# EAGLE library part DRV8353RSRGZT (library REV BLDC)
100-V Three-Phase Smart Gate Driver With Buck Regulator and Three Current Shunt Amplifiers Source: Datasheet <http://www.ti.com/lit/gpn/drv8353r>
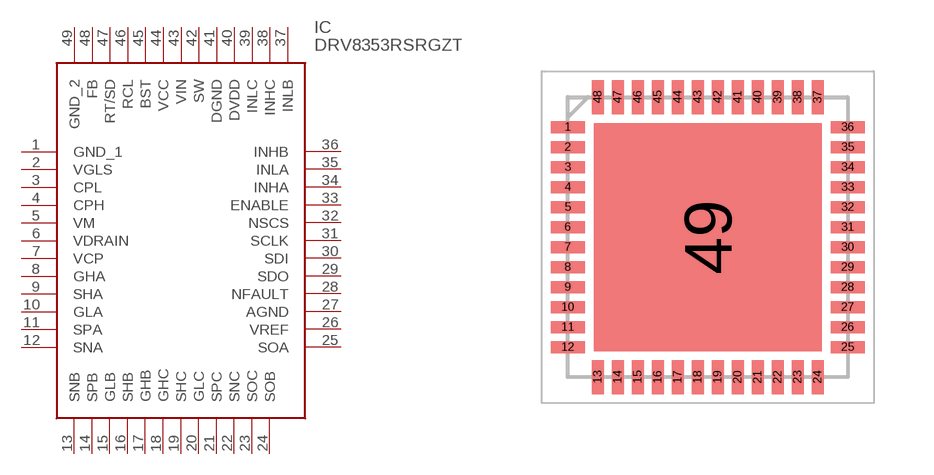
[diagram p0: symbol with the pads of QFN50P700X700X100-49N; footprint QFN50P700X700X100-49N]

Designator prefix IC

## DRV8353RSRGZT (DESCRIPTION: 100-V Three-Phase Smart Gate Driver With Buck Regulator and Three Current Shunt Amplifiers; HEIGHT: 1mm; MANUFACTURER_NAME: Texas Instruments; MANUFACTURER_PART_NUMBER: DRV8353RSRGZT; MOUSER_PART_NUMBER: 595-DRV8353RSRGZT; MOUSER_PRICE-STOCK: https://www.mouser.com/Search/Refine.aspx?Keyword=595-DRV8353RSRGZT)  [QFN50P700X700X100-49N]
1  GND_1
2  VGLS
3  CPL
4  CPH
5  VM
6  VDRAIN
7  VCP
8  GHA
9  SHA
10  GLA
11  SPA
12  SNA
13  SNB
14  SPB
15  GLB
16  SHB
17  GHB
18  GHC
19  SHC
20  GLC
21  SPC
22  SNC
23  SOC
24  SOB
25  SOA
26  VREF
27  AGND
28  NFAULT
29  SDO
30  SDI
31  SCLK
32  NSCS
33  ENABLE
34  INHA
35  INLA
36  INHB
37  INLB
38  INHC
39  INLC
40  DVDD
41  DGND
42  SW
43  VIN
44  VCC
45  BST
46  RCL
47  RT/SD
48  FB
49  GND_2

## Footprint QFN50P700X700X100-49N (pad centres in mm)
RGZ (S-PVQFN-N48)_2
smd 0.85 x 0.3: 1 -3.5,2.75; 2 -3.5,2.25; 3 -3.5,1.75; 4 -3.5,1.25; 5 -3.5,0.75; 6 -3.5,0.25; 7 -3.5,-0.25; 8 -3.5,-0.75; 9 -3.5,-1.25; 10 -3.5,-1.75; 11 -3.5,-2.25; 12 -3.5,-2.75; 25 3.5,-2.75; 26 3.5,-2.25; 27 3.5,-1.75; 28 3.5,-1.25; 29 3.5,-0.75; 30 3.5,-0.25; 31 3.5,0.25; 32 3.5,0.75; 33 3.5,1.25; 34 3.5,1.75; 35 3.5,2.25; 36 3.5,2.75
smd 0.3 x 0.85: 13 -2.75,-3.5; 14 -2.25,-3.5; 15 -1.75,-3.5; 16 -1.25,-3.5; 17 -0.75,-3.5; 18 -0.25,-3.5; 19 0.25,-3.5; 20 0.75,-3.5; 21 1.25,-3.5; 22 1.75,-3.5; 23 2.25,-3.5; 24 2.75,-3.5; 37 2.75,3.5; 38 2.25,3.5; 39 1.75,3.5; 40 1.25,3.5; 41 0.75,3.5; 42 0.25,3.5; 43 -0.25,3.5; 44 -0.75,3.5; 45 -1.25,3.5; 46 -1.75,3.5; 47 -2.25,3.5; 48 -2.75,3.5
smd 5.7 x 5.7: 49 0,0